# EAGLE library part LT2606 (library linear-technology)
DAC 16-/14-/12-Bit Rail-to-Rail with I2C Interface
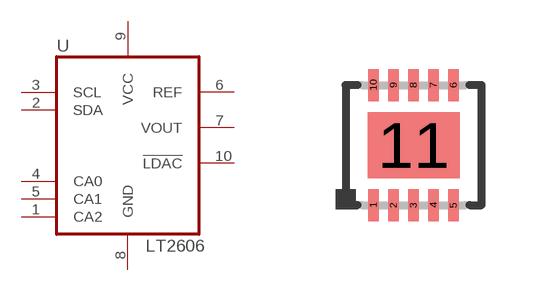
[diagram p23: symbol with the pads of DFN10; footprint DFN10]

Designator prefix U

## LT2606  [DFN10]
1  CA2
2  SDA
3  SCL
4  CA0
5  CA1
6  REF  pas
7  VOUT  out
8  GND  pwr
9  VCC  pwr
10  !LDAC!  pas

## Footprint DFN10 (pad centres in mm)
DFN-10 (3mmx3mm)
smd 0.265 x 0.8: 1 -1,-1.5; 2 -0.5,-1.5; 3 0,-1.5; 4 0.5,-1.5; 5 1,-1.5; 6 1,1.5; 7 0.5,1.5; 8 0,1.5; 9 -0.5,1.5; 10 -1,1.5
smd 2.3 x 1.65: 11 0,0